# Altium integrated library EEUFC1V101B.IntLib: 1 symbol
Pins are listed as number, name and electrical type; pins without a type are passive.

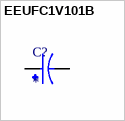
[diagram p0: symbol EEUFC1V101B]

## EEUFC1V101B
designator C?
100F 35V Aluminum Electrolytic Capacitors Radial, Can 2000 Hrs @ 105C; MF: Panasonic; MP: EEUFC1V101B; Package: RADIAL-2 Panasonic; Check_prices: https://www.snapeda.com/parts/EEUFC1V101B/Panasonic/view-part/?ref=eda; SnapEDA_Link: https://www.snapeda.com/parts/EEUFC1V101B/Panasonic/view-part/?ref=snap; Price: None; Availability: Not in stock; Value: *
footprint CAPPRD500W60D800H1150
pins: N, P